# Altium footprint library 电源插座.PcbLib: 8 footprints
Each footprint in its own frame and in the unit in brackets; x right, y up, seen from the top. Pads: shape width x height; smd on the part's side, far side on the other; paste and mask are expansions set on the pad; w line width, h text height; cw(c..) or ccw(c..) is an arc to the next point about the centre after c.
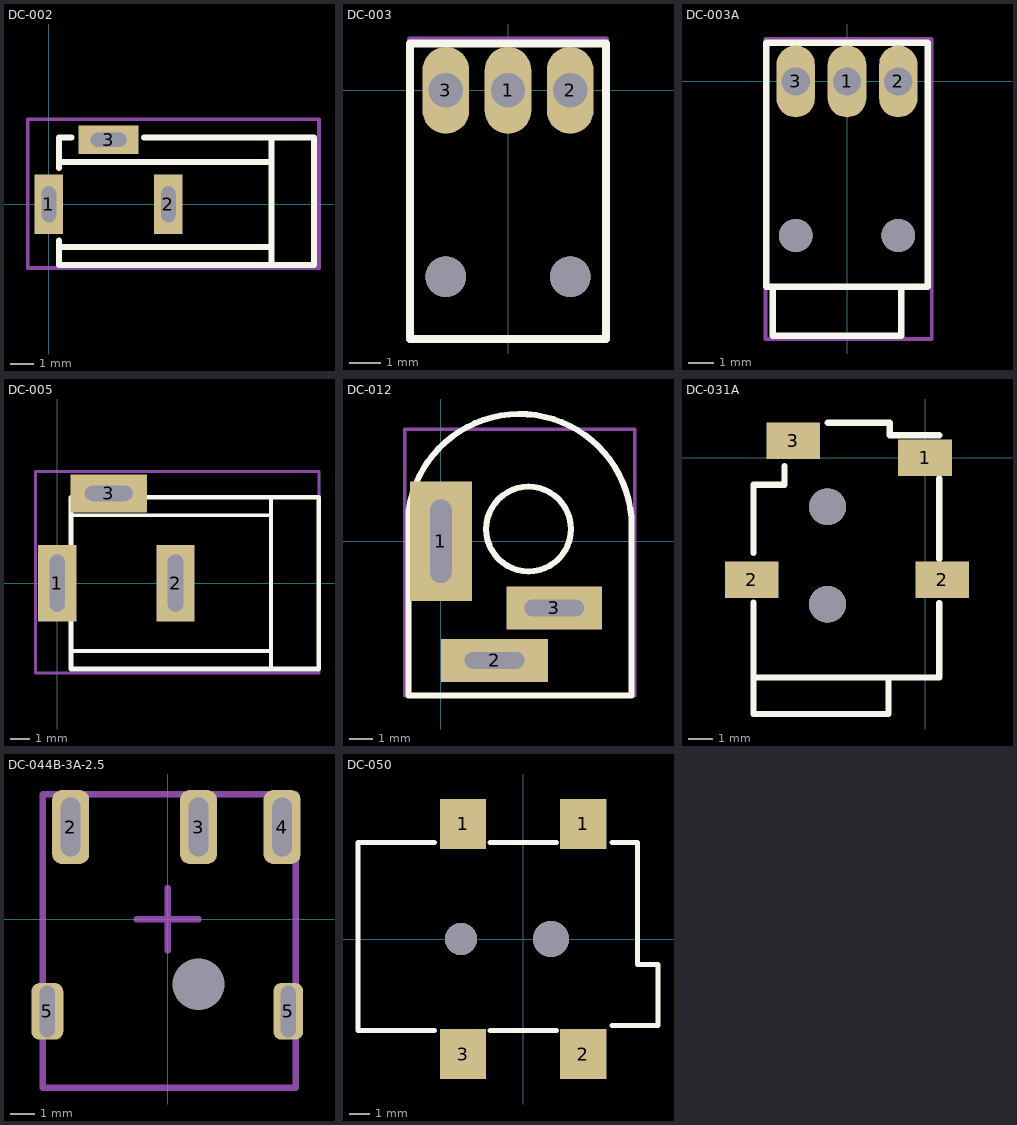
[diagram p0: the footprints below, top view; thin cyan lines are the x and y axes]

## DC-002 [mm] "3.5X1.1mm"
pads (3):
  rect 1.2x2.5 hole 0.6 slot 1.5 at 90 deg: 1(0,0) 2(5,0)
  rect 2.5x1.2 hole 0.6 slot 1.5 at 0 deg: 3(2.5,2.7)
Top Overlay:
  lines w0.254: 0.428,-1.778 9.318,-1.778 ; 0.428,-1.524 0.428,-2.54 11.096,-2.54 11.096,2.794 3.984,2.794 ; 0.428,1.524 0.428,2.794 0.936,2.794 ; 0.428,1.778 9.318,1.778 ; 9.318,-2.54 9.318,-1.778 ; 9.318,2.794 9.318,1.778 ; 9.318,-1.778 9.318,1.778
Top Designator (Mech15):
  lines w0.152: -0.889,-2.667 -0.889,3.556 11.303,3.556 11.303,-2.667 -0.889,-2.667
  text "'.Designator'" at 0.762,-0.508 h1.52
3D body "DC-002.STEP": height 7.3, standoff -3.4, extent -0.254,-2.548 11.046,2.802

## DC-003 [mm] "3.5X1.1mm"
pads (3):
  oval 1.5x2.8 hole 1.1: 1(0,0) 2(2,0) 3(-2,0)
via 2,-6 diameter 1.3 hole 1.3
via -2,-6 diameter 1.3 hole 1.3
Top Overlay:
  lines w0.254: -3.15,-8 3.15,-8 3.15,1.5 -3.15,1.5 -3.15,-8
Top Designator (Mech15):
  lines w0.152: -3.175,-8.001 3.175,-8.001 3.175,1.651 -3.175,1.651 -3.175,-8.001
  text "'.Designator'" at -4.191,-4.191 h1.52
3D body "DC-003.STEP": height 5.02, standoff -3.18, extent -3.175,-7.929 3.125,1.071

## DC-003A [mm] "3.5X1.1mm"
pads (3):
  oval 1.5x2.8 hole 1.1: 1(0,0) 2(2,0) 3(-2,0)
via -2,-6 diameter 1.3 hole 1.3
via 2,-6 diameter 1.3 hole 1.3
Top Overlay:
  lines w0.254: -2.896,-8 -2.896,-9.9 2.104,-9.9 2.104,-8 ; -3.15,-8 -3.15,1.5 3.15,1.5 3.15,-8 -3.15,-8
Top Designator (Mech15):
  lines w0.152: -3.175,-10.033 3.302,-10.033 3.302,1.651 -3.175,1.651 -3.175,-10.033
  text "'.Designator'" at -4.318,-3.937 h1.52
3D body "DC-003A.STEP": height 5.02, standoff -3.18, extent -3.175,-9.895 3.125,1.005

## DC-005 [mm] "5.5X2.1mm"
pads (3):
  rect 2x4 hole 0.8 slot 3 at 90 deg: 1(0,0) 2(6.2,0)
  rect 4x2 hole 0.8 slot 2.5 at 0 deg: 3(2.7,4.7)
Top Overlay:
  lines w0.2: 0.716,-3.556 11.2,-3.556 ; 0.716,3.556 11.2,3.556 ; 11.2,-4.5 11.2,4.5
  lines w0.254: 0.716,-4.5 13.7,-4.5 13.7,4.5 0.716,4.5 0.716,-4.5
Top Designator (Mech15):
  lines w0.152: -1.143,-4.699 -1.143,5.842 13.716,5.842 13.716,-4.699 -1.143,-4.699
  text "'.Designator'" at 2.667,-0.381 h1.52
3D body "DC-005.STEP": height 11.2, standoff -3.8, extent -0.404,-4.523 13.646,4.777

## DC-012 [mm] "5.5X2.1mm"
pads (3):
  rect 2.6x5 hole 0.9 slot 3.5 at 90 deg: 1(0,0)
  rect 4.5x1.8 hole 0.7 slot 2.5 at 0 deg: 2(2.25,-5)
  rect 4x1.8 hole 0.7 slot 2.5 at 0 deg: 3(4.75,-2.8)
Top Overlay:
  circle w0.254: c3.676,0.508 r1.778
  lines w0.254: -1.355,-6.477 8.001,-6.477 8.001,0.635 ccw(c3.302,0.635) -1.355,1.264 -1.355,-6.477
Top Designator (Mech15):
  lines w0.152: 8.128,2.286 8.128,4.699 -1.524,4.699 -1.524,2.54 -1.524,-6.477 8.128,-6.477 8.128,2.54
  text "'.Designator'" at -0.127,-1.524 h1.52
3D body "DC-012.STEP": height 13.6, standoff -4.4, extent -1.143,-6.389 7.857,4.611

## DC-031A [mm] "3.5X1.3mm"
pads (4):
  rect 2.2x1.5 smd: 1(0,0) 2(-7.1,-5) 2(0.7,-5) 3(-5.4,0.7)
via -4,-2 diameter 1.5 hole 1.5
via -4,-6 diameter 1.5 hole 1.5
Top Overlay:
  lines w0.254: -7.038,-8.976 -7.014,-9 -1.5,-9 ; -7.038,-5.928 -7.038,-10.5 -1.5,-10.5 -1.5,-9 ; -7.038,-3.896 -7.038,-1.102 -5.768,-1.102 -5.768,-0.34 ; -3.99,1.438 -1.45,1.438 -1.45,0.93 0.582,0.93 ; 0.582,-5.952 0.582,-9 -1.5,-9 ; 0.582,-4.15 0.582,-0.848
3D body "DC-031A.STEP": height 5, standoff -1.4, extent -7.813,-10.507 1.387,1.493

## DC-044B-3A-2.5 [mm]
pads (6):
  oval 0.2x0.7 hole 2.1 unplated: 0(1.25,-2.65)
  rrect50% 1.5x3 hole 0.8 slot 2.4 at 90 deg unplated: 2(-3.95,3.75) 3(1.25,3.75) 4(4.65,3.75)
  rrect50% 1.3x2.3 hole 0.6 slot 2.1 at 90 deg unplated: 5(-4.9,-3.75)
  rrect50% 1.2x2.3 hole 0.6 slot 2.1 at 90 deg unplated: 5(4.9,-3.75)
Top Component Outline:
  lines w0.254: -5.08,-6.858 5.207,-6.858 5.207,5.08 -5.08,5.08 -5.08,-6.858
Top Component Center:
  lines w0.254: -1.27,0 1.25,0 ; 0,-1.27 0,1.27
Top Value:
  text "'.Comment'" at -6.223,-0.613 h3
Top Designator:
  text "'.Designator'" at -8.58,-0.365 h3
3D body "dc-044b-3a-2_0.stp": height 7.3, standoff -2.9, extent -5.127,-6.841 5.173,5.009

## DC-050 [mm] "5.5X2.1mm"
pads (4):
  rect 2.3x2.5 smd: 1(-3,5.75) 1(3,5.75) 2(3,-5.75) 3(-3,-5.75)
via -3.1,0 diameter 1.6 hole 1.6
via 1.4,0 diameter 1.8 hole 1.8
Top Overlay:
  lines w0.254: -4.442,-4.572 -8.252,-4.572 -8.252,4.826 -4.442,4.826 ; -1.648,-4.572 1.654,-4.572 ; -1.648,4.826 1.654,4.826 ; 4.448,-4.318 6.734,-4.318 6.734,-1.27 5.718,-1.27 5.718,4.826 4.448,4.826
3D body "DC-050.STEP": height 11, standoff -1.4, extent -8.114,-6.342 6.686,6.258